# Altium footprint library lib.PcbLib: 2 footprints
Each footprint in its own frame and in the unit in brackets; x right, y up, seen from the top. Pads: shape width x height; smd on the part's side, far side on the other; paste and mask are expansions set on the pad; w line width, h text height; cw(c..) or ccw(c..) is an arc to the next point about the centre after c.
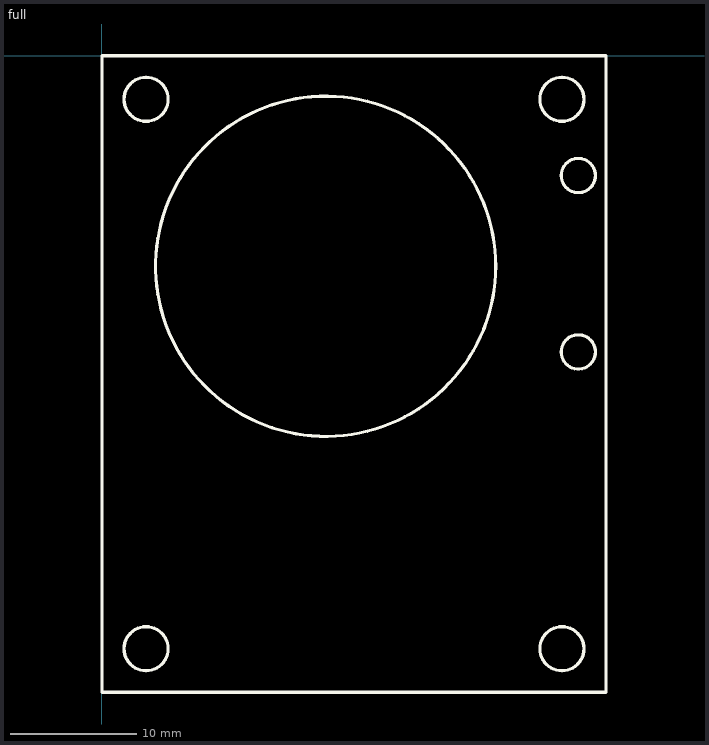
[diagram p0: the footprints below, top view; thin cyan lines are the x and y axes]

## Bottom [mm]

## full [mm]
Top Overlay:
  circle w0.254: c3.5,-3.45 r1.75
  circle w0.254: c36.5,-3.45 r1.75
  circle w0.254: c3.5,-47.05 r1.75
  circle w0.254: c36.5,-47.05 r1.75
  circle w0.254: c17.75,-16.7 r13.5
  circle w0.254: c37.8,-9.5 r1.36
  circle w0.254: c37.8,-23.5 r1.36
  lines w0.254: 0,-50.5 0,0 40,0 40,-10.5 40,-50.5 0,-50.5